# Altium schematic symbol library EXB-2HV472JV.SchLib: 1 symbol
Pins are listed as number, name and electrical type; pins without a type are passive.

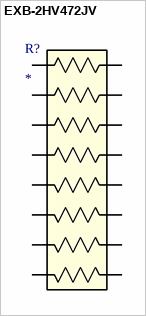
[diagram p0: symbol EXB-2HV472JV]

## EXB-2HV472JV
designator R?
No Description Available; Mfr_Name: Panasonic
footprint RES_EXB2HV
pins: 1, 2, 3, 4, 5, 6, 7, 8, 9, 10, 11, 12, 13, 14, 15, 16